# Altium footprint library BSPO.PcbLib: 178 footprints (part 10 of 12)
Each footprint in its own frame and in the unit in brackets; x right, y up, seen from the top. Pads: shape width x height; smd on the part's side, far side on the other; paste and mask are expansions set on the pad; w line width, h text height; cw(c..) or ccw(c..) is an arc to the next point about the centre after c.
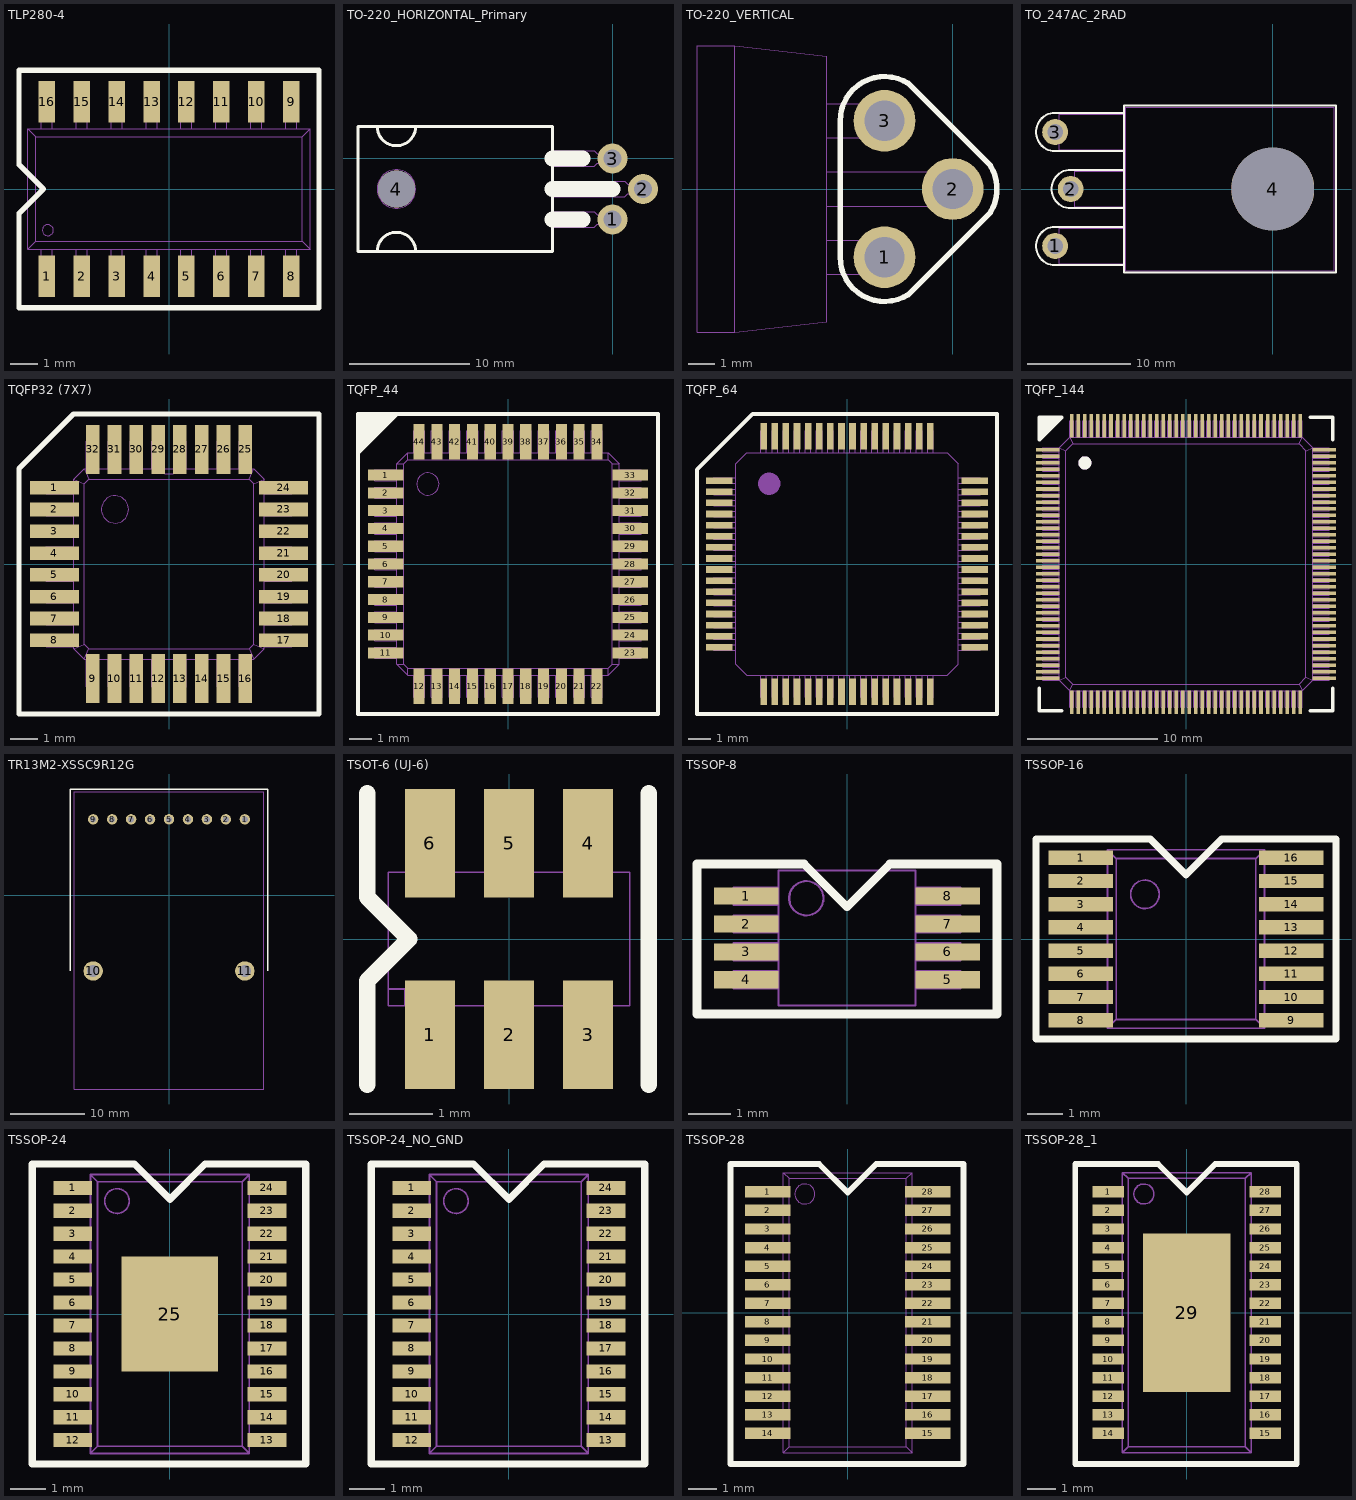
[diagram p9: the footprints below, top view; thin cyan lines are the x and y axes]

## TLP280-4 [mm]
pads (16):
  rect 0.6x1.5 smd: 1(-4.445,-3.175) 2(-3.175,-3.175) 3(-1.905,-3.175) 4(-0.635,-3.175) 5(0.635,-3.175) 6(1.905,-3.175) 7(3.175,-3.175) 8(4.445,-3.175) 9(4.445,3.175) 10(3.175,3.175) 11(1.905,3.175) 12(0.635,3.175) 13(-0.635,3.175) 14(-1.905,3.175) 15(-3.175,3.175) 16(-4.445,3.175)
Top Overlay:
  lines w0.2: -5.461,-4.318 5.461,-4.318 5.461,4.318 -5.461,4.318 -5.461,0.889 -4.572,0 -5.461,-0.889 -5.461,-4.318
Mechanical 1:
  circle w0.02: c-4.41,-1.5 r0.2
  lines w0.02: -4.65,-2.9 -4.25,-2.9 ; -4.65,-2.2 -4.65,-3.5 -4.25,-3.5 -4.25,-2.2 ; -4.65,2.2 -4.65,3.5 -4.25,3.5 -4.25,2.2 ; -4.65,2.9 -4.25,2.9 ; -3.37,-2.9 -2.97,-2.9 ; -3.37,-2.2 -3.37,-3.5 -2.97,-3.5 -2.97,-2.2 ; -3.37,2.2 -3.37,3.5 -2.97,3.5 -2.97,2.2 ; -3.37,2.9 -2.97,2.9 ; -2.11,-2.9 -1.71,-2.9 ; -2.11,-2.2 -2.11,-3.5 -1.71,-3.5 -1.71,-2.2 ; -2.11,2.2 -2.11,3.5 -1.71,3.5 -1.71,2.2 ; -2.11,2.9 -1.71,2.9 ; -0.83,-2.9 -0.43,-2.9 ; -0.83,-2.2 -0.83,-3.5 -0.43,-3.5 -0.43,-2.2 ; -0.83,2.2 -0.83,3.5 -0.43,3.5 -0.43,2.2 ; -0.83,2.9 -0.43,2.9 ; 0.43,-2.9 0.83,-2.9 ; 0.43,-2.2 0.43,-3.5 0.83,-3.5 0.83,-2.2 ; 0.43,2.2 0.43,3.5 0.83,3.5 0.83,2.2 ; 0.43,2.9 0.83,2.9 ; 1.71,-2.9 2.11,-2.9 ; 1.71,-2.2 1.71,-3.5 2.11,-3.5 2.11,-2.2 ; 1.71,2.2 1.71,3.5 2.11,3.5 2.11,2.2 ; 1.71,2.9 2.11,2.9 ; 2.97,-2.9 3.37,-2.9 ; 2.97,-2.2 2.97,-3.5 3.37,-3.5 3.37,-2.2 ; 2.97,2.2 2.97,3.5 3.37,3.5 3.37,2.2 ; 2.97,2.9 3.37,2.9 ; 4.25,-2.9 4.65,-2.9 ; 4.25,-2.2 4.25,-3.5 4.65,-3.5 4.65,-2.2 ; 4.25,2.2 4.25,3.5 4.65,3.5 4.65,2.2 ; 4.25,2.9 4.65,2.9 ; -5.15,-2.2 5.15,-2.2 ; -5.15,-2.2 -5.15,2.2 ; -5.15,-2.2 -4.85,-1.9 ; -5.15,2.2 5.15,2.2 ; -5.15,2.2 -4.85,1.9 ; -4.85,-1.9 4.85,-1.9 ; -4.85,-1.9 -4.85,1.9 ; -4.85,1.9 4.85,1.9 ; 4.85,-1.9 4.85,1.9 ; 4.85,-1.9 5.15,-2.2 ; 4.85,1.9 5.15,2.2 ; 5.15,-2.2 5.15,2.2

## TO-220_HORIZONTAL_Primary [mm]
pads (4):
  round 2.5 hole 1.5: 1(0,-5.115) 2(2.54,-2.575) 3(0,-0.035)
  round 3.1 hole 3.1 unplated mask-25.4: 4(-18,-2.575)
Top Overlay:
  lines w0.25: -19.6,-7.775 cw(c-18,-7.775) -16.4,-7.775 ; -19.6,-7.775 -16.4,-7.775 ; -19.6,-7.775 -21.2,-7.775 -21.2,2.625 -19.6,2.625 ; -19.6,2.625 ccw(c-18,2.625) -16.4,2.625 ; -19.6,2.625 -16.4,2.625 ; -16.4,-7.775 -5,-7.775 -5,2.625 -16.4,2.625
  lines w1.3: -5,-5.115 -2.5,-5.115 ; -5,-2.575 0,-2.575 ; -5,-0.035 -2.5,-0.035
Top Solder:
  region: -18,-0.063 -18.49,-0.111 -18.961,-0.254 -19.396,-0.486 -19.776,-0.799 -20.089,-1.179 -20.321,-1.614 -20.464,-2.085 -20.512,-2.575 -20.464,-3.065 -20.321,-3.536 -20.089,-3.971 -19.776,-4.351 -19.396,-4.664 -18.961,-4.896 -18.49,-5.039 -18,-5.087 -17.51,-5.039 -17.039,-4.896 -16.604,-4.664 -16.224,-4.351 -15.911,-3.971 -15.679,-3.536 -15.536,-3.065 -15.488,-2.575 -15.536,-2.085 -15.679,-1.614 -15.911,-1.179 -16.224,-0.799 -16.604,-0.486 -17.039,-0.254 -17.51,-0.111
Bottom Solder:
  region: -18,-0.063 -18.49,-0.111 -18.961,-0.254 -19.396,-0.486 -19.776,-0.799 -20.089,-1.179 -20.321,-1.614 -20.464,-2.085 -20.512,-2.575 -20.464,-3.065 -20.321,-3.536 -20.089,-3.971 -19.776,-4.351 -19.396,-4.664 -18.961,-4.896 -18.49,-5.039 -18,-5.087 -17.51,-5.039 -17.039,-4.896 -16.604,-4.664 -16.224,-4.351 -15.911,-3.971 -15.679,-3.536 -15.536,-3.065 -15.488,-2.575 -15.536,-2.085 -15.679,-1.614 -15.911,-1.179 -16.224,-0.799 -16.604,-0.486 -17.039,-0.254 -17.51,-0.111
Mechanical 1:
  circle w0.025: c-18,-2.575 r1.6
  lines w0.025: -5,-5.765 -1.5,-5.765 -1.25,-5.515 0.3,-5.515 0.3,-4.715 -1.25,-4.715 -1.5,-4.465 -5,-4.465 ; -5,-3.225 1,-3.225 1.25,-2.975 2.8,-2.975 2.8,-2.175 1.25,-2.175 1,-1.925 -5,-1.925 ; -5,-0.685 -1.5,-0.685 -1.25,-0.435 0.3,-0.435 0.3,0.365 -1.25,0.365 -1.5,0.615 -5,0.615 ; -0.3,-5.515 -0.3,-4.715 ; -0.3,-0.435 -0.3,0.365 ; 2.2,-2.975 2.2,-2.175 ; -19.6,-7.775 cw(c-18,-7.775) -16.4,-7.775 ; -19.6,-7.775 -16.4,-7.775 ; -19.6,-7.775 -21.2,-7.775 -21.2,2.625 -19.6,2.625 ; -19.6,2.625 ccw(c-18,2.625) -16.4,2.625 ; -19.6,2.625 -16.4,2.625 ; -16.4,-7.775 -5,-7.775 -5,2.625 -16.4,2.625

## TO-220_VERTICAL [mm]
pads (3):
  round 2.3 hole 1.5: 1(-2.54,-2.54) 2(0,0) 3(-2.54,2.54)
Top Overlay:
  lines w0.2: -1.653,-3.932 cw(c-2.54,-2.54) -4.191,-2.54 -4.191,2.54 cw(c-2.54,2.54) -1.653,3.932 ; -1.651,-3.937 1.397,-0.889 ; -1.651,3.937 1.397,0.889 ; 1.392,-0.887 ccw(c0,0) 1.392,0.887
Mechanical 1:
  lines w0.02: -4.699,-3.175 -2.286,-3.175 -2.286,-1.905 -4.699,-1.905 ; -4.699,-0.635 0.254,-0.635 0.254,0.635 -4.699,0.635 ; -4.699,1.905 -2.286,1.905 -2.286,3.175 -4.699,3.175 ; -8.128,-5.334 -8.128,5.334 ; -8.128,-5.334 -4.699,-4.953 -4.699,4.953 -8.128,5.334 ; -8.128,-5.334 -9.525,-5.334 -9.525,5.334 -8.128,5.334

## TO_247AC_2RAD [mm]
pads (4):
  round 2.5 hole 1.5: 1(-21,-5.5) 2(-19.5,0) 3(-21,5.5)
  round 8 hole 8 unplated: 4(0,0)
Top Overlay:
  lines w0.2: -14.35,-7.35 -21,-7.35 cw(c-21,-5.5) -21,-3.65 -14.35,-3.65 ; -14.35,-1.85 -19.5,-1.85 cw(c-19.5,0) -19.5,1.85 -14.35,1.85 ; -14.35,3.65 -21,3.65 cw(c-21,5.5) -21,7.35 -14.35,7.35 ; -14.35,-8.05 6.1,-8.05 6.1,8.05 -14.35,8.05 -14.35,-8.05
Mechanical 1:
  circle w0.025: c-0.005,0 r1.8
  lines w0.025: -20.6,-6.2 -21.4,-6.2 -21.4,-4.8 -20.6,-4.8 ; -20.6,4.8 -21.4,4.8 -21.4,6.2 -20.6,6.2 ; -19.1,-0.7 -19.9,-0.7 -19.9,0.7 -19.1,0.7 ; -14.2,-7.2 -20.6,-7.2 -20.6,-3.8 -14.2,-3.8 ; -14.2,-1.7 -19.1,-1.7 -19.1,1.7 -14.2,1.7 ; -14.2,3.8 -20.6,3.8 -20.6,7.2 -14.2,7.2 ; -14.2,-7.9 5.95,-7.9 5.95,7.9 -14.2,7.9 -14.2,-7.9

## TQFP32 (7X7) [mm]
pads (32):
  rect 1.8x0.5 smd: 1(-4.2,2.8) 2(-4.2,2) 3(-4.2,1.2) 4(-4.2,0.4) 5(-4.2,-0.4) 6(-4.2,-1.2) 7(-4.2,-2) 8(-4.2,-2.8) 17(4.2,-2.8) 18(4.2,-2) 19(4.2,-1.2) 20(4.2,-0.4) 21(4.2,0.4) 22(4.2,1.2) 23(4.2,2) 24(4.2,2.8)
  rect 0.5x1.8 smd: 9(-2.8,-4.2) 10(-2,-4.2) 11(-1.2,-4.2) 12(-0.4,-4.2) 13(0.4,-4.2) 14(1.2,-4.2) 15(2,-4.2) 16(2.8,-4.2) 25(2.8,4.2) 26(2,4.2) 27(1.2,4.2) 28(0.4,4.2) 29(-0.4,4.2) 30(-1.2,4.2) 31(-2,4.2) 32(-2.8,4.2)
Top Overlay:
  lines w0.2: -5.5,-5.5 5.5,-5.5 5.5,5.5 -3.5,5.5 -5.5,3.5 -5.5,-5.5
Mechanical 1:
  circle w0.025: c-1.981,2 r0.5
  lines w0.02: -3.5,-3.025 -4.5,-3.025 -4.5,-2.575 -3.5,-2.575 ; -3.5,-2.225 -4.5,-2.225 -4.5,-1.775 -3.5,-1.775 ; -3.5,-1.425 -4.5,-1.425 -4.5,-0.975 -3.5,-0.975 ; -3.5,-0.625 -4.5,-0.625 -4.5,-0.175 -3.5,-0.175 ; -3.5,0.175 -4.5,0.175 -4.5,0.625 -3.5,0.625 ; -3.5,0.975 -4.5,0.975 -4.5,1.425 -3.5,1.425 ; -3.5,1.775 -4.5,1.775 -4.5,2.225 -3.5,2.225 ; -3.5,2.575 -4.5,2.575 -4.5,3.025 -3.5,3.025 ; -3.025,-3.5 -3.025,-4.5 -2.575,-4.5 -2.575,-3.5 ; -3.025,3.5 -3.025,4.5 -2.575,4.5 -2.575,3.5 ; -2.225,-3.5 -2.225,-4.5 -1.775,-4.5 -1.775,-3.5 ; -2.225,3.5 -2.225,4.5 -1.775,4.5 -1.775,3.5 ; -1.425,-3.5 -1.425,-4.5 -0.975,-4.5 -0.975,-3.5 ; -1.425,3.5 -1.425,4.5 -0.975,4.5 -0.975,3.5 ; -0.625,-3.5 -0.625,-4.5 -0.175,-4.5 -0.175,-3.5 ; -0.625,3.5 -0.625,4.5 -0.175,4.5 -0.175,3.5 ; -0.15,3.3 0.15,3.3 ; 0.175,-3.5 0.175,-4.5 0.625,-4.5 0.625,-3.5 ; 0.175,3.5 0.175,4.5 0.625,4.5 0.625,3.5 ; 0.975,-3.5 0.975,-4.5 1.425,-4.5 1.425,-3.5 ; 0.975,3.5 0.975,4.5 1.425,4.5 1.425,3.5 ; 1.775,-3.5 1.775,-4.5 2.225,-4.5 2.225,-3.5 ; 1.775,3.5 1.775,4.5 2.225,4.5 2.225,3.5 ; 2.575,-3.5 2.575,-4.5 3.025,-4.5 3.025,-3.5 ; 2.575,3.5 2.575,4.5 3.025,4.5 3.025,3.5 ; 3.5,-3.025 4.5,-3.025 4.5,-2.575 3.5,-2.575 ; 3.5,-2.225 4.5,-2.225 4.5,-1.775 3.5,-1.775 ; 3.5,-1.425 4.5,-1.425 4.5,-0.975 3.5,-0.975 ; 3.5,-0.625 4.5,-0.625 4.5,-0.175 3.5,-0.175 ; 3.5,0.175 4.5,0.175 4.5,0.625 3.5,0.625 ; 3.5,0.975 4.5,0.975 4.5,1.425 3.5,1.425 ; 3.5,1.775 4.5,1.775 4.5,2.225 3.5,2.225 ; 3.5,2.575 4.5,2.575 4.5,3.025 3.5,3.025 ; -3.5,-3.1 -3.5,3.1 ; -3.5,-3.1 -3.1,-3.5 ; -3.5,-3.1 -3.1,-2.934 ; -3.5,3.1 -3.1,2.934 ; -3.5,3.1 -3.1,3.5 ; -3.1,-3.5 3.1,-3.5 ; -3.1,-3.5 -2.934,-3.1 ; -3.1,-2.934 -3.1,2.934 ; -3.1,-2.934 -2.934,-3.1 ; -3.1,2.934 -2.934,3.1 ; -3.1,3.5 3.1,3.5 ; -3.1,3.5 -2.934,3.1 ; -2.934,-3.1 2.934,-3.1 ; -2.934,3.1 2.934,3.1 ; 2.934,-3.1 3.1,-3.5 ; 2.934,-3.1 3.1,-2.934 ; 2.934,3.1 3.1,3.5 ; 2.934,3.1 3.1,2.934 ; 3.1,-3.5 3.5,-3.1 ; 3.1,-2.934 3.1,2.934 ; 3.1,-2.934 3.5,-3.1 ; 3.1,2.934 3.5,3.1 ; 3.1,3.5 3.5,3.1 ; 3.5,-3.1 3.5,3.1

## TQFP_44 [mm]
pads (44):
  rect 1.6x0.5 smd: 1(-5.5,4) 2(-5.5,3.2) 3(-5.5,2.4) 4(-5.5,1.6) 5(-5.5,0.8) 6(-5.5,0) 7(-5.5,-0.8) 8(-5.5,-1.6) 9(-5.5,-2.4) 10(-5.5,-3.2) 11(-5.5,-4) 23(5.5,-4) 24(5.5,-3.2) 25(5.5,-2.4) 26(5.5,-1.6) 27(5.5,-0.8) 28(5.5,0) 29(5.5,0.8) 30(5.5,1.6) 31(5.5,2.4) 32(5.5,3.2) 33(5.5,4)
  rect 0.5x1.6 smd: 12(-4,-5.5) 13(-3.2,-5.5) 14(-2.4,-5.5) 15(-1.6,-5.5) 16(-0.8,-5.5) 17(0,-5.5) 18(0.8,-5.5) 19(1.6,-5.5) 20(2.4,-5.5) 21(3.2,-5.5) 22(4,-5.5) 34(4,5.5) 35(3.2,5.5) 36(2.4,5.5) 37(1.6,5.5) 38(0.8,5.5) 39(0,5.5) 40(-0.8,5.5) 41(-1.6,5.5) 42(-2.4,5.5) 43(-3.2,5.5) 44(-4,5.5)
Top Overlay:
  region: -6.75,5 -5,6.75 -6.75,6.75
  lines w0.2: -6.75,5 -5,6.75 ; -6.75,-6.75 6.75,-6.75 6.75,6.75 -6.75,6.75 -6.75,-6.75
Mechanical 1:
  drawing of 157 lines, arcs and shapes, not listed

## TQFP_64 [mm]
pads (64):
  rect 1.2x0.3 smd: 1(-5.75,3.75) 2(-5.75,3.25) 3(-5.75,2.75) 4(-5.75,2.25) 5(-5.75,1.75) 6(-5.75,1.25) 7(-5.75,0.75) 8(-5.75,0.25) 9(-5.75,-0.25) 10(-5.75,-0.75) 11(-5.75,-1.25) 12(-5.75,-1.75) 13(-5.75,-2.25) 14(-5.75,-2.75) 15(-5.75,-3.25) 16(-5.75,-3.75) 33(5.75,-3.75) 34(5.75,-3.25) 35(5.75,-2.75) 36(5.75,-2.25) 37(5.75,-1.75) 38(5.75,-1.25) 39(5.75,-0.75) 40(5.75,-0.25) 41(5.75,0.25) 42(5.75,0.75) 43(5.75,1.25) 44(5.75,1.75) 45(5.75,2.25) 46(5.75,2.75) 47(5.75,3.25) 48(5.75,3.75)
  rect 0.3x1.2 smd: 17(-3.75,-5.75) 18(-3.25,-5.75) 19(-2.75,-5.75) 20(-2.25,-5.75) 21(-1.75,-5.75) 22(-1.25,-5.75) 23(-0.75,-5.75) 24(-0.25,-5.75) 25(0.25,-5.75) 26(0.75,-5.75) 27(1.25,-5.75) 28(1.75,-5.75) 29(2.25,-5.75) 30(2.75,-5.75) 31(3.25,-5.75) 32(3.75,-5.75) 49(3.75,5.75) 50(3.25,5.75) 51(2.75,5.75) 52(2.25,5.75) 53(1.75,5.75) 54(1.25,5.75) 55(0.75,5.75) 56(0.25,5.75) 57(-0.25,5.75) 58(-0.75,5.75) 59(-1.25,5.75) 60(-1.75,5.75) 61(-2.25,5.75) 62(-2.75,5.75) 63(-3.25,5.75) 64(-3.75,5.75)
Top Overlay:
  lines w0.2: -6.75,-6.75 6.75,-6.75 6.75,6.75 -4.25,6.75 -6.75,4.25 -6.75,-6.75
Mechanical 1:
  drawing of 201 lines, arcs and shapes, not listed

## TQFP_144 [mm]
pads (144):
  rect 1.8x0.27 smd: 1(-10.6,8.75) 2(-10.6,8.25) 3(-10.6,7.75) 4(-10.6,7.25) 5(-10.6,6.75) 6(-10.6,6.25) 7(-10.6,5.75) 8(-10.6,5.25) 9(-10.6,4.75) 10(-10.6,4.25) 11(-10.6,3.75) 12(-10.6,3.25) 13(-10.6,2.75) 14(-10.6,2.25) 15(-10.6,1.75) 16(-10.6,1.25) 17(-10.6,0.75) 18(-10.6,0.25) 19(-10.6,-0.25) 20(-10.6,-0.75) 21(-10.6,-1.25) 22(-10.6,-1.75) 23(-10.6,-2.25) 24(-10.6,-2.75) 25(-10.6,-3.25) 26(-10.6,-3.75) 27(-10.6,-4.25) 28(-10.6,-4.75) 29(-10.6,-5.25) 30(-10.6,-5.75) 31(-10.6,-6.25) 32(-10.6,-6.75) 33(-10.6,-7.25) 34(-10.6,-7.75) 35(-10.6,-8.25) 36(-10.6,-8.75) 73(10.6,-8.75) 74(10.6,-8.25) 75(10.6,-7.75) 76(10.6,-7.25) 77(10.6,-6.75) 78(10.6,-6.25) 79(10.6,-5.75) 80(10.6,-5.25) 81(10.6,-4.75) 82(10.6,-4.25) 83(10.6,-3.75) 84(10.6,-3.25) 85(10.6,-2.75) 86(10.6,-2.25) 87(10.6,-1.75) 88(10.6,-1.25) 89(10.6,-0.75) 90(10.6,-0.25) 91(10.6,0.25) 92(10.6,0.75) 93(10.6,1.25) 94(10.6,1.75) 95(10.6,2.25) 96(10.6,2.75) 97(10.6,3.25) 98(10.6,3.75) 99(10.6,4.25) 100(10.6,4.75) 101(10.6,5.25) 102(10.6,5.75) 103(10.6,6.25) 104(10.6,6.75) 105(10.6,7.25) 106(10.6,7.75) 107(10.6,8.25) 108(10.6,8.75)
  rect 0.27x1.8 smd: 37(-8.75,-10.6) 38(-8.25,-10.6) 39(-7.75,-10.6) 40(-7.25,-10.6) 41(-6.75,-10.6) 42(-6.25,-10.6) 43(-5.75,-10.6) 44(-5.25,-10.6) 45(-4.75,-10.6) 46(-4.25,-10.6) 47(-3.75,-10.6) 48(-3.25,-10.6) 49(-2.75,-10.6) 50(-2.25,-10.6) 51(-1.75,-10.6) 52(-1.25,-10.6) 53(-0.75,-10.6) 54(-0.25,-10.6) 55(0.25,-10.6) 56(0.75,-10.6) 57(1.25,-10.6) 58(1.75,-10.6) 59(2.25,-10.6) 60(2.75,-10.6) 61(3.25,-10.6) 62(3.75,-10.6) 63(4.25,-10.6) 64(4.75,-10.6) 65(5.25,-10.6) 66(5.75,-10.6) 67(6.25,-10.6) 68(6.75,-10.6) 69(7.25,-10.6) 70(7.75,-10.6) 71(8.25,-10.6) 72(8.75,-10.6) 109(8.75,10.6) 110(8.25,10.6) 111(7.75,10.6) 112(7.25,10.6) 113(6.75,10.6) 114(6.25,10.6) 115(5.75,10.6) 116(5.25,10.6) 117(4.75,10.6) 118(4.25,10.6) 119(3.75,10.6) 120(3.25,10.6) 121(2.75,10.6) 122(2.25,10.6) 123(1.75,10.6) 124(1.25,10.6) 125(0.75,10.6) 126(0.25,10.6) 127(-0.25,10.6) 128(-0.75,10.6) 129(-1.25,10.6) 130(-1.75,10.6) 131(-2.25,10.6) 132(-2.75,10.6) 133(-3.25,10.6) 134(-3.75,10.6) 135(-4.25,10.6) 136(-4.75,10.6) 137(-5.25,10.6) 138(-5.75,10.6) 139(-6.25,10.6) 140(-6.75,10.6) 141(-7.25,10.6) 142(-7.75,10.6) 143(-8.25,10.6) 144(-8.75,10.6)
Top Overlay:
  circle w0.5: c-7.75,7.75 r0.25
  lines w0.25: -11.25,-9.5 -11.25,-11.25 -9.5,-11.25 ; -11.25,9.75 -9.75,11.25 ; -11.25,10 -10,11.25 ; -11.25,10.25 -10.25,11.25 ; -11.25,10.5 -10.5,11.25 ; -11.25,10.75 -10.75,11.25 ; -11.25,11 -11,11.25 ; 9.5,-11.25 11.25,-11.25 11.25,-9.5 ; 9.5,11.25 11.25,11.25 11.25,9.5 ; -11.25,9.5 -9.5,11.25 -11.25,11.25 -11.25,9.5
Mechanical 1:
  drawing of 601 lines, arcs and shapes, not listed

## TR13M2-XSSC9R12G [mm]
pads (11):
  round 1.4 hole 0.8: 1(10.16,10.16) 2(7.62,10.16) 3(5.08,10.16) 4(2.54,10.16) 5(0,10.16) 6(-2.54,10.16) 7(-5.08,10.16) 8(-7.62,10.16) 9(-10.16,10.16)
  round 2.6 hole 1.6: 10(-10.16,-10.16) 11(10.16,-10.16)
Top Overlay:
  lines w0.2: -13.208,-10.16 -13.208,14.224 13.208,14.224 13.208,-10.16
Mechanical 1:
  lines w0.025: -12.7,-25.971 12.7,-25.971 12.7,13.843 -12.7,13.843 -12.7,-25.971

## TSOT-6 (UJ-6) [mm]
pads (6):
  rect 0.6x1.3 smd: 1(-0.95,-1.15) 2(0,-1.15) 3(0.95,-1.15) 4(0.95,1.15) 5(0,1.15) 6(-0.95,1.15)
Top Overlay:
  lines w0.2: -1.7,-1.75 -1.7,-0.5 -1.2,0 -1.7,0.5 -1.7,1.75 ; 1.675,-1.75 1.675,1.75
Mechanical 1:
  lines w0.02: -1.45,-0.6 -1.25,-0.6 -1.25,-0.8 ; -1.2,-0.8 -1.2,-1.4 -0.7,-1.4 -0.7,-0.8 ; -1.2,0.8 -1.2,1.4 -0.7,1.4 -0.7,0.8 ; -0.25,-0.8 -0.25,-1.4 0.25,-1.4 0.25,-0.8 ; -0.25,0.8 -0.25,1.4 0.25,1.4 0.25,0.8 ; 0.7,-0.8 0.7,-1.4 1.2,-1.4 1.2,-0.8 ; 0.7,0.8 0.7,1.4 1.2,1.4 1.2,0.8 ; -1.45,-0.8 1.45,-0.8 1.45,0.8 -1.45,0.8 -1.45,-0.8

## TSSOP-8 [mm]
pads (8):
  rect 1.5x0.4 smd: 1(-2.35,1) 2(-2.35,0.35) 3(-2.35,-0.3) 4(-2.35,-0.95) 5(2.35,-0.95) 6(2.35,-0.3) 7(2.35,0.35) 8(2.35,1)
Top Overlay:
  lines w0.2: -3.5,-1.75 3.5,-1.75 3.5,1.75 1,1.75 0,0.75 -1,1.75 -3.5,1.75 -3.5,-1.75
Mechanical 1:
  circle w0.05: c-0.95,0.95 r0.4
  lines w0.05: -1.6,-1.15 -2.65,-1.15 -2.65,-0.75 -1.6,-0.75 ; -1.6,-0.5 -2.65,-0.5 -2.65,-0.1 -1.6,-0.1 ; -1.6,0.15 -2.65,0.15 -2.65,0.55 -1.6,0.55 ; -1.6,0.8 -2.65,0.8 -2.65,1.2 -1.6,1.2 ; 1.6,-1.15 2.65,-1.15 2.65,-0.75 1.6,-0.75 ; 1.6,-0.5 2.65,-0.5 2.65,-0.1 1.6,-0.1 ; 1.6,0.15 2.65,0.15 2.65,0.55 1.6,0.55 ; 1.6,0.8 2.65,0.8 2.65,1.2 1.6,1.2 ; -1.6,-1.55 1.6,-1.55 1.6,1.6 -1.6,1.6 -1.6,-1.55

## TSSOP-16 [mm]
pads (16):
  rect 1.8x0.4 smd: 1(-2.95,2.275) 2(-2.95,1.625) 3(-2.95,0.975) 4(-2.95,0.325) 5(-2.95,-0.325) 6(-2.95,-0.975) 7(-2.95,-1.625) 8(-2.95,-2.275) 9(2.95,-2.275) 10(2.95,-1.625) 11(2.95,-0.975) 12(2.95,-0.325) 13(2.95,0.325) 14(2.95,0.975) 15(2.95,1.625) 16(2.95,2.275)
Top Overlay:
  lines w0.2: -4.2,-2.8 4.2,-2.8 4.2,2.8 1,2.8 0,1.8 -1,2.8 -4.2,2.8 -4.2,-2.8
Mechanical 1:
  circle w0.05: c-1.15,1.25 r0.4
  lines w0.05: -2.2,-2.425 -3.2,-2.425 -3.2,-2.125 -2.2,-2.125 ; -2.2,-1.775 -3.2,-1.775 -3.2,-1.475 -2.2,-1.475 ; -2.2,-1.125 -3.2,-1.125 -3.2,-0.825 -2.2,-0.825 ; -2.2,-0.475 -3.2,-0.475 -3.2,-0.175 -2.2,-0.175 ; -2.2,0.175 -3.2,0.175 -3.2,0.475 -2.2,0.475 ; -2.2,0.825 -3.2,0.825 -3.2,1.125 -2.2,1.125 ; -2.2,1.475 -3.2,1.475 -3.2,1.775 -2.2,1.775 ; -2.2,2.125 -3.2,2.125 -3.2,2.425 -2.2,2.425 ; -2.2,2.275 -2.2,2.5 ; 2.2,-2.425 3.2,-2.425 3.2,-2.125 2.2,-2.125 ; 2.2,-1.775 3.2,-1.775 3.2,-1.475 2.2,-1.475 ; 2.2,-1.125 3.2,-1.125 3.2,-0.825 2.2,-0.825 ; 2.2,-0.475 3.2,-0.475 3.2,-0.175 2.2,-0.175 ; 2.2,0.175 3.2,0.175 3.2,0.475 2.2,0.475 ; 2.2,0.825 3.2,0.825 3.2,1.125 2.2,1.125 ; 2.2,1.475 3.2,1.475 3.2,1.775 2.2,1.775 ; 2.2,2.125 3.2,2.125 3.2,2.425 2.2,2.425 ; 2.2,2.275 2.2,2.5 ; -2.2,-2.5 -1.95,-2.25 ; -2.2,-2.5 -2.2,2.5 ; -2.2,-2.5 2.2,-2.5 ; -2.2,2.5 -1.95,2.25 ; -2.2,2.5 2.2,2.5 ; -1.95,-2.25 -1.95,2.25 ; -1.95,-2.25 1.95,-2.25 ; -1.95,2.25 1.95,2.25 ; 1.95,-2.25 2.2,-2.5 ; 1.95,-2.25 1.95,2.25 ; 1.95,2.25 2.2,2.5 ; 2.2,-2.5 2.2,2.5

## TSSOP-24 [mm]
pads (25):
  rect 1.1x0.4 smd: 1(-2.75,3.575) 2(-2.75,2.925) 3(-2.75,2.275) 4(-2.75,1.625) 5(-2.75,0.975) 6(-2.75,0.325) 7(-2.75,-0.325) 8(-2.75,-0.975) 9(-2.75,-1.625) 10(-2.75,-2.275) 11(-2.75,-2.925) 12(-2.75,-3.575) 13(2.75,-3.575) 14(2.75,-2.925) 15(2.75,-2.275) 16(2.75,-1.625) 17(2.75,-0.975) 18(2.75,-0.325) 19(2.75,0.325) 20(2.75,0.975) 21(2.75,1.625) 22(2.75,2.275) 23(2.75,2.925) 24(2.75,3.575)
  rect 2.74x3.25 smd: 25(0,0)
Top Overlay:
  lines w0.2: -3.9,-4.25 3.85,-4.25 3.85,4.25 1,4.25 0,3.25 -1,4.25 -3.9,4.25 -3.9,-4.25
Mechanical 1:
  circle w0.05: c-1.5,3.2 r0.35
  lines w0.05: -2.25,-3.725 -3.2,-3.725 -3.2,-3.425 -2.25,-3.425 ; -2.25,-3.075 -3.2,-3.075 -3.2,-2.775 -2.25,-2.775 ; -2.25,-2.425 -3.2,-2.425 -3.2,-2.125 -2.25,-2.125 ; -2.25,-1.775 -3.2,-1.775 -3.2,-1.475 -2.25,-1.475 ; -2.25,-1.125 -3.2,-1.125 -3.2,-0.825 -2.25,-0.825 ; -2.25,-0.475 -3.2,-0.475 -3.2,-0.175 -2.25,-0.175 ; -2.25,0.175 -3.2,0.175 -3.2,0.475 -2.25,0.475 ; -2.25,0.825 -3.2,0.825 -3.2,1.125 -2.25,1.125 ; -2.25,1.475 -3.2,1.475 -3.2,1.775 -2.25,1.775 ; -2.25,2.125 -3.2,2.125 -3.2,2.425 -2.25,2.425 ; -2.25,2.775 -3.2,2.775 -3.2,3.075 -2.25,3.075 ; -2.25,3.425 -3.2,3.425 -3.2,3.725 -2.25,3.725 ; 2.25,-3.725 3.2,-3.725 3.2,-3.425 2.25,-3.425 ; 2.25,-3.075 3.2,-3.075 3.2,-2.775 2.25,-2.775 ; 2.25,-2.425 3.2,-2.425 3.2,-2.125 2.25,-2.125 ; 2.25,-1.775 3.2,-1.775 3.2,-1.475 2.25,-1.475 ; 2.25,-1.125 3.2,-1.125 3.2,-0.825 2.25,-0.825 ; 2.25,-0.475 3.2,-0.475 3.2,-0.175 2.25,-0.175 ; 2.25,0.175 3.2,0.175 3.2,0.475 2.25,0.475 ; 2.25,0.825 3.2,0.825 3.2,1.125 2.25,1.125 ; 2.25,1.475 3.2,1.475 3.2,1.775 2.25,1.775 ; 2.25,2.125 3.2,2.125 3.2,2.425 2.25,2.425 ; 2.25,2.775 3.2,2.775 3.2,3.075 2.25,3.075 ; 2.25,3.425 3.2,3.425 3.2,3.725 2.25,3.725 ; -2.25,-3.95 2.25,-3.95 ; -2.25,-3.95 -2.25,3.95 ; -2.25,-3.95 -2.05,-3.75 ; -2.25,3.95 2.25,3.95 ; -2.25,3.95 -2.05,3.75 ; -2.05,-3.75 2.05,-3.75 ; -2.05,-3.75 -2.05,3.75 ; -2.05,3.75 2.05,3.75 ; 2.05,-3.75 2.05,3.75 ; 2.05,-3.75 2.25,-3.95 ; 2.05,3.75 2.25,3.95 ; 2.25,-3.95 2.25,3.95

## TSSOP-24_NO_GND [mm]
pads (24):
  rect 1.1x0.4 smd: 1(-2.75,3.575) 2(-2.75,2.925) 3(-2.75,2.275) 4(-2.75,1.625) 5(-2.75,0.975) 6(-2.75,0.325) 7(-2.75,-0.325) 8(-2.75,-0.975) 9(-2.75,-1.625) 10(-2.75,-2.275) 11(-2.75,-2.925) 12(-2.75,-3.575) 13(2.75,-3.575) 14(2.75,-2.925) 15(2.75,-2.275) 16(2.75,-1.625) 17(2.75,-0.975) 18(2.75,-0.325) 19(2.75,0.325) 20(2.75,0.975) 21(2.75,1.625) 22(2.75,2.275) 23(2.75,2.925) 24(2.75,3.575)
Top Overlay:
  lines w0.2: -3.9,-4.25 3.85,-4.25 3.85,4.25 1,4.25 0,3.25 -1,4.25 -3.9,4.25 -3.9,-4.25
Mechanical 1:
  circle w0.05: c-1.5,3.2 r0.35
  lines w0.05: -2.25,-3.725 -3.2,-3.725 -3.2,-3.425 -2.25,-3.425 ; -2.25,-3.075 -3.2,-3.075 -3.2,-2.775 -2.25,-2.775 ; -2.25,-2.425 -3.2,-2.425 -3.2,-2.125 -2.25,-2.125 ; -2.25,-1.775 -3.2,-1.775 -3.2,-1.475 -2.25,-1.475 ; -2.25,-1.125 -3.2,-1.125 -3.2,-0.825 -2.25,-0.825 ; -2.25,-0.475 -3.2,-0.475 -3.2,-0.175 -2.25,-0.175 ; -2.25,0.175 -3.2,0.175 -3.2,0.475 -2.25,0.475 ; -2.25,0.825 -3.2,0.825 -3.2,1.125 -2.25,1.125 ; -2.25,1.475 -3.2,1.475 -3.2,1.775 -2.25,1.775 ; -2.25,2.125 -3.2,2.125 -3.2,2.425 -2.25,2.425 ; -2.25,2.775 -3.2,2.775 -3.2,3.075 -2.25,3.075 ; -2.25,3.425 -3.2,3.425 -3.2,3.725 -2.25,3.725 ; 2.25,-3.725 3.2,-3.725 3.2,-3.425 2.25,-3.425 ; 2.25,-3.075 3.2,-3.075 3.2,-2.775 2.25,-2.775 ; 2.25,-2.425 3.2,-2.425 3.2,-2.125 2.25,-2.125 ; 2.25,-1.775 3.2,-1.775 3.2,-1.475 2.25,-1.475 ; 2.25,-1.125 3.2,-1.125 3.2,-0.825 2.25,-0.825 ; 2.25,-0.475 3.2,-0.475 3.2,-0.175 2.25,-0.175 ; 2.25,0.175 3.2,0.175 3.2,0.475 2.25,0.475 ; 2.25,0.825 3.2,0.825 3.2,1.125 2.25,1.125 ; 2.25,1.475 3.2,1.475 3.2,1.775 2.25,1.775 ; 2.25,2.125 3.2,2.125 3.2,2.425 2.25,2.425 ; 2.25,2.775 3.2,2.775 3.2,3.075 2.25,3.075 ; 2.25,3.425 3.2,3.425 3.2,3.725 2.25,3.725 ; -2.25,-3.95 2.25,-3.95 ; -2.25,-3.95 -2.25,3.95 ; -2.25,-3.95 -2.05,-3.75 ; -2.25,3.95 2.25,3.95 ; -2.25,3.95 -2.05,3.75 ; -2.05,-3.75 2.05,-3.75 ; -2.05,-3.75 -2.05,3.75 ; -2.05,3.75 2.05,3.75 ; 2.05,-3.75 2.05,3.75 ; 2.05,-3.75 2.25,-3.95 ; 2.05,3.75 2.25,3.95 ; 2.25,-3.95 2.25,3.95

## TSSOP-28 [mm]
pads (28):
  rect 1.6x0.4 smd: 1(-2.8,4.225) 2(-2.8,3.575) 3(-2.8,2.925) 4(-2.8,2.275) 5(-2.8,1.625) 6(-2.8,0.975) 7(-2.8,0.325) 8(-2.8,-0.325) 9(-2.8,-0.975) 10(-2.8,-1.625) 11(-2.8,-2.275) 12(-2.8,-2.925) 13(-2.8,-3.575) 14(-2.8,-4.225) 15(2.8,-4.225) 16(2.8,-3.575) 17(2.8,-2.925) 18(2.8,-2.275) 19(2.8,-1.625) 20(2.8,-0.975) 21(2.8,-0.325) 22(2.8,0.325) 23(2.8,0.975) 24(2.8,1.625) 25(2.8,2.275) 26(2.8,2.925) 27(2.8,3.575) 28(2.8,4.225)
Top Overlay:
  lines w0.2: -4.1,-5.3 4.05,-5.3 4.05,5.2 1,5.2 0,4.2 -1,5.2 -4.1,5.2 -4.1,-5.3
Mechanical 1:
  circle w0.02: c-1.5,4.15 r0.35
  lines w0.02: -2.25,-4.375 -3.2,-4.375 -3.2,-4.075 -2.25,-4.075 ; -2.25,-3.725 -3.2,-3.725 -3.2,-3.425 -2.25,-3.425 ; -2.25,-3.075 -3.2,-3.075 -3.2,-2.775 -2.25,-2.775 ; -2.25,-2.425 -3.2,-2.425 -3.2,-2.125 -2.25,-2.125 ; -2.25,-1.775 -3.2,-1.775 -3.2,-1.475 -2.25,-1.475 ; -2.25,-1.125 -3.2,-1.125 -3.2,-0.825 -2.25,-0.825 ; -2.25,-0.475 -3.2,-0.475 -3.2,-0.175 -2.25,-0.175 ; -2.25,0.175 -3.2,0.175 -3.2,0.475 -2.25,0.475 ; -2.25,0.825 -3.2,0.825 -3.2,1.125 -2.25,1.125 ; -2.25,1.475 -3.2,1.475 -3.2,1.775 -2.25,1.775 ; -2.25,2.125 -3.2,2.125 -3.2,2.425 -2.25,2.425 ; -2.25,2.775 -3.2,2.775 -3.2,3.075 -2.25,3.075 ; -2.25,3.425 -3.2,3.425 -3.2,3.725 -2.25,3.725 ; -2.25,4.075 -3.2,4.075 -3.2,4.375 -2.25,4.375 ; 2.25,-4.375 3.2,-4.375 3.2,-4.075 2.25,-4.075 ; 2.25,-3.725 3.2,-3.725 3.2,-3.425 2.25,-3.425 ; 2.25,-3.075 3.2,-3.075 3.2,-2.775 2.25,-2.775 ; 2.25,-2.425 3.2,-2.425 3.2,-2.125 2.25,-2.125 ; 2.25,-1.775 3.2,-1.775 3.2,-1.475 2.25,-1.475 ; 2.25,-1.125 3.2,-1.125 3.2,-0.825 2.25,-0.825 ; 2.25,-0.475 3.2,-0.475 3.2,-0.175 2.25,-0.175 ; 2.25,0.175 3.2,0.175 3.2,0.475 2.25,0.475 ; 2.25,0.825 3.2,0.825 3.2,1.125 2.25,1.125 ; 2.25,1.475 3.2,1.475 3.2,1.775 2.25,1.775 ; 2.25,2.125 3.2,2.125 3.2,2.425 2.25,2.425 ; 2.25,2.775 3.2,2.775 3.2,3.075 2.25,3.075 ; 2.25,3.425 3.2,3.425 3.2,3.725 2.25,3.725 ; 2.25,4.075 3.2,4.075 3.2,4.375 2.25,4.375 ; -2.25,-4.9 2.25,-4.9 ; -2.25,-4.9 -2.25,4.9 ; -2.25,-4.9 -2.05,-4.7 ; -2.25,4.9 2.25,4.9 ; -2.25,4.9 -2.05,4.7 ; -2.05,-4.7 2.05,-4.7 ; -2.05,-4.7 -2.05,4.7 ; -2.05,4.7 2.05,4.7 ; 2.05,-4.7 2.05,4.7 ; 2.05,-4.7 2.25,-4.9 ; 2.05,4.7 2.25,4.9 ; 2.25,-4.9 2.25,4.9

## TSSOP-28_1 [mm]
pads (29):
  rect 1.1x0.4 smd: 1(-2.75,4.225) 2(-2.75,3.575) 3(-2.75,2.925) 4(-2.75,2.275) 5(-2.75,1.625) 6(-2.75,0.975) 7(-2.75,0.325) 8(-2.75,-0.325) 9(-2.75,-0.975) 10(-2.75,-1.625) 11(-2.75,-2.275) 12(-2.75,-2.925) 13(-2.75,-3.575) 14(-2.75,-4.225) 15(2.75,-4.225) 16(2.75,-3.575) 17(2.75,-2.925) 18(2.75,-2.275) 19(2.75,-1.625) 20(2.75,-0.975) 21(2.75,-0.325) 22(2.75,0.325) 23(2.75,0.975) 24(2.75,1.625) 25(2.75,2.275) 26(2.75,2.925) 27(2.75,3.575) 28(2.75,4.225)
  rect 3.05x5.55 smd: 29(0,0)
Top Overlay:
  lines w0.2: -3.9,-5.3 3.85,-5.3 3.85,5.2 1,5.2 0,4.2 -1,5.2 -3.9,5.2 -3.9,-5.3
Mechanical 1:
  circle w0.05: c-1.5,4.15 r0.35
  lines w0.05: -2.25,-4.375 -3.2,-4.375 -3.2,-4.075 -2.25,-4.075 ; -2.25,-3.725 -3.2,-3.725 -3.2,-3.425 -2.25,-3.425 ; -2.25,-3.075 -3.2,-3.075 -3.2,-2.775 -2.25,-2.775 ; -2.25,-2.425 -3.2,-2.425 -3.2,-2.125 -2.25,-2.125 ; -2.25,-1.775 -3.2,-1.775 -3.2,-1.475 -2.25,-1.475 ; -2.25,-1.125 -3.2,-1.125 -3.2,-0.825 -2.25,-0.825 ; -2.25,-0.475 -3.2,-0.475 -3.2,-0.175 -2.25,-0.175 ; -2.25,0.175 -3.2,0.175 -3.2,0.475 -2.25,0.475 ; -2.25,0.825 -3.2,0.825 -3.2,1.125 -2.25,1.125 ; -2.25,1.475 -3.2,1.475 -3.2,1.775 -2.25,1.775 ; -2.25,2.125 -3.2,2.125 -3.2,2.425 -2.25,2.425 ; -2.25,2.775 -3.2,2.775 -3.2,3.075 -2.25,3.075 ; -2.25,3.425 -3.2,3.425 -3.2,3.725 -2.25,3.725 ; -2.25,4.075 -3.2,4.075 -3.2,4.375 -2.25,4.375 ; 2.25,-4.375 3.2,-4.375 3.2,-4.075 2.25,-4.075 ; 2.25,-3.725 3.2,-3.725 3.2,-3.425 2.25,-3.425 ; 2.25,-3.075 3.2,-3.075 3.2,-2.775 2.25,-2.775 ; 2.25,-2.425 3.2,-2.425 3.2,-2.125 2.25,-2.125 ; 2.25,-1.775 3.2,-1.775 3.2,-1.475 2.25,-1.475 ; 2.25,-1.125 3.2,-1.125 3.2,-0.825 2.25,-0.825 ; 2.25,-0.475 3.2,-0.475 3.2,-0.175 2.25,-0.175 ; 2.25,0.175 3.2,0.175 3.2,0.475 2.25,0.475 ; 2.25,0.825 3.2,0.825 3.2,1.125 2.25,1.125 ; 2.25,1.475 3.2,1.475 3.2,1.775 2.25,1.775 ; 2.25,2.125 3.2,2.125 3.2,2.425 2.25,2.425 ; 2.25,2.775 3.2,2.775 3.2,3.075 2.25,3.075 ; 2.25,3.425 3.2,3.425 3.2,3.725 2.25,3.725 ; 2.25,4.075 3.2,4.075 3.2,4.375 2.25,4.375 ; -2.25,-4.9 2.25,-4.9 ; -2.25,-4.9 -2.25,4.9 ; -2.25,-4.9 -2.05,-4.7 ; -2.25,4.9 2.25,4.9 ; -2.25,4.9 -2.05,4.7 ; -2.05,-4.7 2.05,-4.7 ; -2.05,-4.7 -2.05,4.7 ; -2.05,4.7 2.05,4.7 ; 2.05,-4.7 2.05,4.7 ; 2.05,-4.7 2.25,-4.9 ; 2.05,4.7 2.25,4.9 ; 2.25,-4.9 2.25,4.9